# Altium schematic symbol library LED_RGB_4PLCC.SchLib: 1 symbol
Pins are listed as number, name and electrical type; pins without a type are passive.

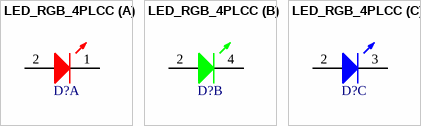
[diagram p0: symbol LED_RGB_4PLCC]

## LED_RGB_4PLCC
designator D?, comment RGB  (value not drawn)
LED RGB
part A pins: 1 C, 2 A
part B pins: 2 A, 4 C
part C pins: 2 A, 3 C